# Altium integrated library TLV70018DDCT.IntLib: 1 symbol
Pins are listed as number, name and electrical type; pins without a type are passive.

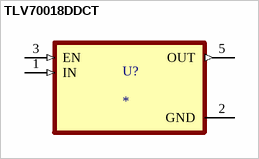
[diagram p0: symbol TLV70018DDCT]

## TLV70018DDCT
designator U?
MP: TLV70018DDCT; Package: None; Price: None; Value: *; Availability: Unavailable
footprint SOT95P280X110-5N
pins: 1 IN (in), 2 GND (power), 3 EN (in), 5 OUT (out)